# Altium integrated library Components - 05.08.25 - 14.12.IntLib: 1 symbol
Pins are listed as number, name and electrical type; pins without a type are passive.

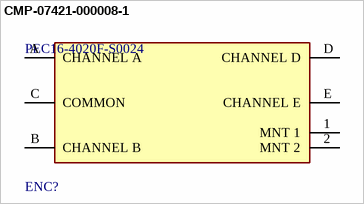
[diagram p0: symbol CMP-07421-000008-1]

## CMP-07421-000008-1
designator ENC?, comment PEC16-4020F-S0024
ROTARY ENCODER MECHANICAL 24PPR; Number of Channels: 2; Pulses per Revolution: 24; Detent: No; Built in Switch: Yes; Output Type: Quadrature; Contact Plating: Tin; Termination: PC Pin; Encoder Type: Mechanical; Package Quantity: 50; Series: PEC16; Min Operating Temperature: -30°C; RoHS Compliant: Yes; Packaging: Bulk; Type: Mechanical; Length: 28mm; Orientation: Vertical; Mount: Through Hole; Max Operating Temperature: 70°C
footprint FP-PEC16-4020F-S0024-MFG
pins: 1 MNT 1, 2 MNT 2, A CHANNEL A, B CHANNEL B, C COMMON, D CHANNEL D, E CHANNEL E